# Altium schematic symbol library CONNECTOR.SchLib: 22 symbols
Pins are listed as number, name and electrical type; pins without a type are passive.

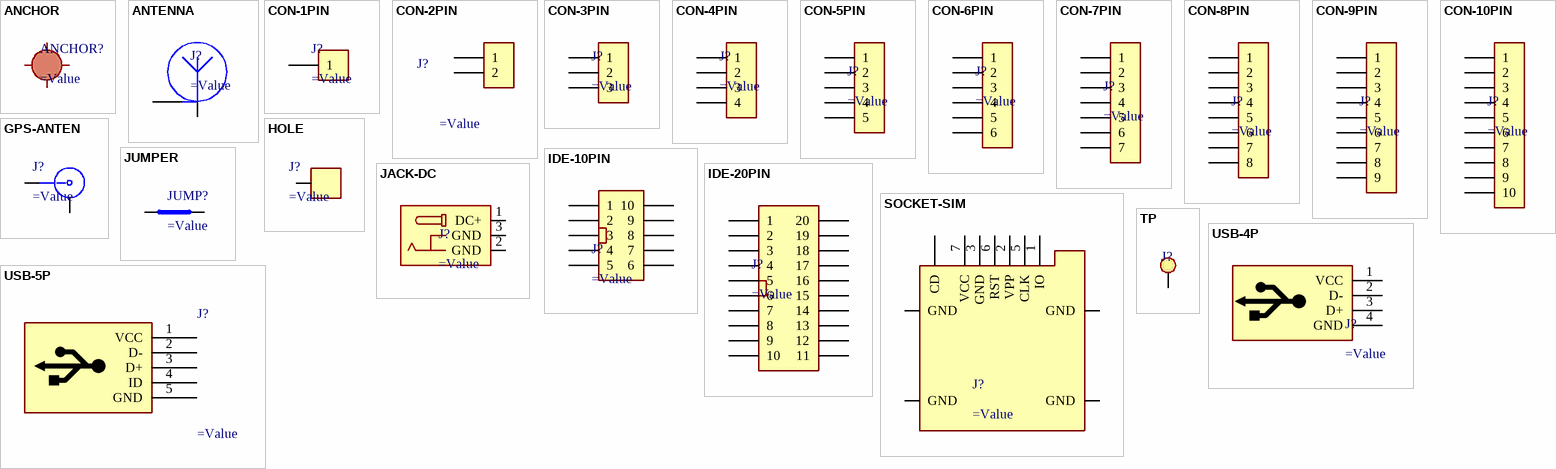
[diagram p0: symbols ANCHOR to USB-5P]

## ANCHOR
designator ANCHOR?  (no BOM)
=Description

## ANTENNA
designator J?
=Description
pins: 1, 2 GND

## CON-1PIN
designator J?
=Description
pins: 1

## CON-2PIN
designator J?
=Description
pins: 1, 2

## CON-3PIN
designator J?
=Description
pins: 1, 2, 3

## CON-4PIN
designator J?
=Description
pins: 1, 2, 3, 4

## CON-5PIN
designator J?
=Description
pins: 1, 2, 3, 4, 5

## CON-6PIN
designator J?
=Description
pins: 1, 2, 3, 4, 5, 6

## CON-7PIN
designator J?
=Description
pins: 1, 2, 3, 4, 5, 6, 7

## CON-8PIN
designator J?
=Description
pins: 1, 2, 3, 4, 5, 6, 7, 8

## CON-9PIN
designator J?
=Description
pins: 1, 2, 3, 4, 5, 6, 7, 8, 9

## CON-10PIN
designator J?
=Description
pins: 1, 2, 3, 4, 5, 6, 7, 8, 9, 10

## GPS-ANTEN
designator J?
=Description
pins: 1, 2 GND

## HOLE
designator J?
=Description
pins: 0

## IDE-10PIN
designator J?
=Description
pins: 1, 2, 3, 4, 5, 6, 7, 8, 9, 10

## IDE-20PIN
designator J?
=Description
pins: 1, 2, 3, 4, 5, 6, 7, 8, 9, 10, 11, 12, 13, 14, 15, 16, 17, 18, 19, 20

## JACK-DC
designator J?
=Description
pins: 1 DC+, 2 GND, 3 GND

## JUMPER
designator JUMP?
=Description
pins: 1, 2

## SOCKET-SIM
designator J?
=Desscription
pins: 1 IO, 2 VPP, 3 GND, 5 CLK, 6 RST, 7 VCC, CD, GND, GND, GND, GND

## TP
designator J?  (no BOM)
=Description
pins: 1 TP

## USB-4P
designator J?
=Description
pins: 1 VCC, 2 D-, 3 D+, 4 GND

## USB-5P
designator J?
=Description; Part number: USB-B-Mini
pins: 1 VCC, 2 D-, 3 D+, 4 ID, 5 GND